# Altium footprint library PcbLib_FPGA_Controller.PcbLib: 20 footprints (part 2 of 2)
Each footprint in its own frame and in the unit in brackets; x right, y up, seen from the top. Pads: shape width x height; smd on the part's side, far side on the other; paste and mask are expansions set on the pad; w line width, h text height; cw(c..) or ccw(c..) is an arc to the next point about the centre after c.
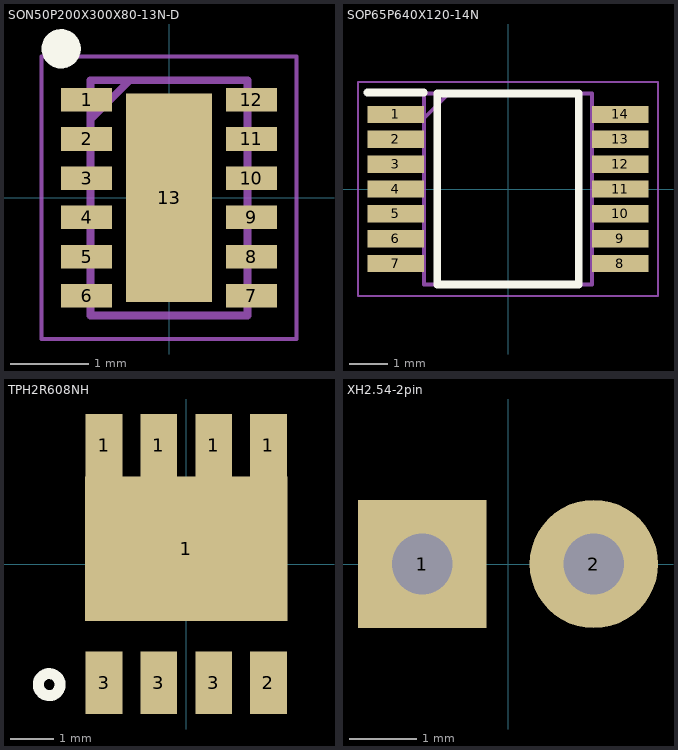
[diagram p1: the footprints below, top view; thin cyan lines are the x and y axes]

## SON50P200X300X80-13N-D [mm]
pads (13):
  rect 0.65x0.3 smd: 1(-1.05,1.25) 2(-1.05,0.75) 3(-1.05,0.25) 4(-1.05,-0.25) 5(-1.05,-0.75) 6(-1.05,-1.25) 7(1.05,-1.25) 8(1.05,-0.75) 9(1.05,-0.25) 10(1.05,0.25) 11(1.05,0.75) 12(1.05,1.25)
  rect 1.1x2.66 smd: 13(0,0)
Top Overlay:
  circle w0.25: c-1.375,1.9 r0.125
Mechanical 13:
  lines w0.1: -1,1 -0.5,1.5 ; -1,-1.5 1,-1.5 1,1.5 -1,1.5 -1,-1.5
Mechanical 15:
  lines w0.05: -1.625,-1.8 1.625,-1.8 1.625,1.8 -1.625,1.8 -1.625,-1.8
3D body "LM27762DSSR.stp": height 0.8, standoff 0, extent -1.05,-1.5 1.05,1.5

## SOP65P640X120-14N [mm]
pads (14):
  rect 1.475x0.45 smd: 1(-2.938,1.95) 2(-2.938,1.3) 3(-2.938,0.65) 4(-2.938,0) 5(-2.938,-0.65) 6(-2.938,-1.3) 7(-2.938,-1.95) 8(2.938,-1.95) 9(2.938,-1.3) 10(2.938,-0.65) 11(2.938,0) 12(2.938,0.65) 13(2.938,1.3) 14(2.938,1.95)
Top Overlay:
  lines w0.2: -3.675,2.525 -2.2,2.525 ; -1.85,-2.5 -1.85,2.5 1.85,2.5 1.85,-2.5 -1.85,-2.5
Mechanical 13:
  lines w0.1: -2.2,1.85 -1.55,2.5 ; -2.2,-2.5 -2.2,2.5 2.2,2.5 2.2,-2.5 -2.2,-2.5
Mechanical 15:
  lines w0.05: -3.925,-2.8 -3.925,2.8 3.925,2.8 3.925,-2.8 -3.925,-2.8
3D body "TLV3544QPWRQ1.stp": height 1.13, standoff 0, extent -3.2,-2.5 3.2,2.5

## TPH2R608NH [mm]
pads (9):
  rect 0.85x1.45 smd: 1(-1.905,2.75) 1(-0.635,2.75) 1(0.635,2.75) 1(1.905,2.75) 2(1.905,-2.75) 3(-1.905,-2.75) 3(-0.635,-2.75) 3(0.635,-2.75)
  rect 4.7x3.35 smd: 1(0,0.35)
Top Overlay:
  circle w0.254: c-3.175,-2.794 r0.254
3D body "SON 5x6mm.STEP": height 1, standoff 0, extent -2.45,-3 2.45,3

## XH2.54-2pin [mm]
pads (2):
  rect 1.9x1.9 hole 0.9: 1(-1.27,0)
  round 1.9 hole 0.9: 2(1.27,0)
Top Solder:
  circle w0: c1.27,0 r0.871
  circle w0: c-1.27,0 r0.871
Bottom Solder:
  circle w0: c1.27,0 r0.871
  circle w0: c-1.27,0 r0.871